# Altium footprint library RBB_MCU7_V2.2.PcbLib: 20 footprints (part 2 of 2)
Each footprint in its own frame and in the unit in brackets; x right, y up, seen from the top. Pads: shape width x height; smd on the part's side, far side on the other; paste and mask are expansions set on the pad; w line width, h text height; cw(c..) or ccw(c..) is an arc to the next point about the centre after c.
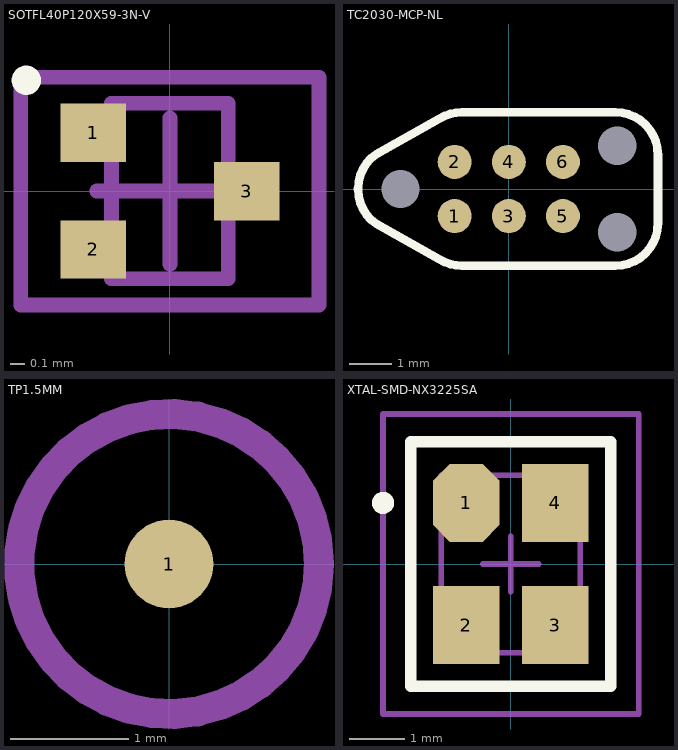
[diagram p1: the footprints below, top view; thin cyan lines are the x and y axes]

## SOTFL40P120X59-3N-V [mm] "SOTFL,0.40mm pitch;3 pin,0.80mm W X 1.20mm L X 0.59mm H body"
height 0.59
pads (3):
  rect 0.45x0.4 smd paste+0 mask+0: 1(-0.525,0.4) 2(-0.525,-0.4) 3(0.525,0)
Top Overlay:
  circle w0.1: c-0.983,0.758 r0.05
Mechanical 13:
  lines w0.1: -0.4,-0.6 -0.4,0.6 0.4,0.6 0.4,-0.6 -0.4,-0.6
Mechanical 15:
  lines w0.1: -0.5,0 0.5,0 ; 0,-0.5 0,0.5 ; -1.02,-0.78 -1.02,0.78 1.02,0.78 1.02,-0.78 -1.02,-0.78
3D body "PG-TSFP-3-1.stp": height 0.59, standoff 0, extent -0.6,-0.6 0.6,0.6

## TC2030-MCP-NL [mm] "Conector ICD en placa"
height 8
pads (9):
  round 0.8 smd paste-0.4: 1(-1.27,-0.635) 2(-1.27,0.635) 3(0,-0.635) 4(0,0.635) 5(1.27,-0.635) 6(1.27,0.635)
  round 0.85 hole 0.9 unplated mask+0: ""(-2.54,0) ""(2.54,-1.016) ""(2.54,1.016)
Top Overlay:
  lines w0.2: -3.111,-0.816 cw(c-2.544,0) -3.111,0.816 -1.63,1.648 cw(c-1.1,0.8) -1.1,1.8 2.5,1.8 cw(c2.5,0.8) 3.5,0.8 3.5,-0.8 cw(c2.5,-0.8) 2.5,-1.8 -1.1,-1.8 cw(c-1.1,-0.8) -1.63,-1.648 -3.111,-0.816

## TP1.5MM [mm]
height 0.1
pads (1):
  round 0.75 smd: 1(0,0)
Mechanical 13:
  circle w0.254: c0,0 r1.27

## XTAL-SMD-NX3225SA [mm] "Crystal; 3.2mm W X 2.5mm L X 0.6mm H body"
height 0.6
pads (4):
  oct 1.2x1.4 smd paste+0 mask+0: 1(-0.8,1.1)
  rect 1.2x1.4 smd paste+0 mask+0: 2(-0.8,-1.1) 3(0.8,-1.1) 4(0.8,1.1)
Top Overlay:
  circle w0.2: c-2.3,1.1 r0.1
  lines w0.2: -1.8,-2.2 -1.8,2.2 1.8,2.2 1.8,-2.2 -1.8,-2.2
Mechanical 13:
  lines w0.1: -1.25,-1.6 1.25,-1.6 1.25,1.6 -1.25,1.6 -1.25,-1.6
Mechanical 15:
  lines w0.1: -0.5,0 0.5,0 ; 0,-0.5 0,0.5 ; -2.3,-2.7 -2.3,2.7 2.3,2.7 2.3,-2.7 -2.3,-2.7
3D body: height 0.6, standoff 0.25, extent -1.05,-1.375 1.05,1.375
3D body: height 0.48, standoff 0.25, extent -1.2,-1.53 1.2,1.53
3D body: height 0.05, standoff 0, extent -1.25,0.6 -0.35,1.6
3D body: height 0.05, standoff 0, extent -1.25,-1.6 -0.35,-0.6
3D body: height 0.05, standoff 0, extent 0.35,-1.6 1.25,-0.6
3D body: height 0.05, standoff 0, extent 0.35,0.6 1.25,1.6
3D body: height 0.35, standoff 0.05, extent -1.25,-1.6 1.25,1.6